# Altium integrated library Linear Technology Power Management Battery Management.IntLib: 626 symbols (part 17 of 56)
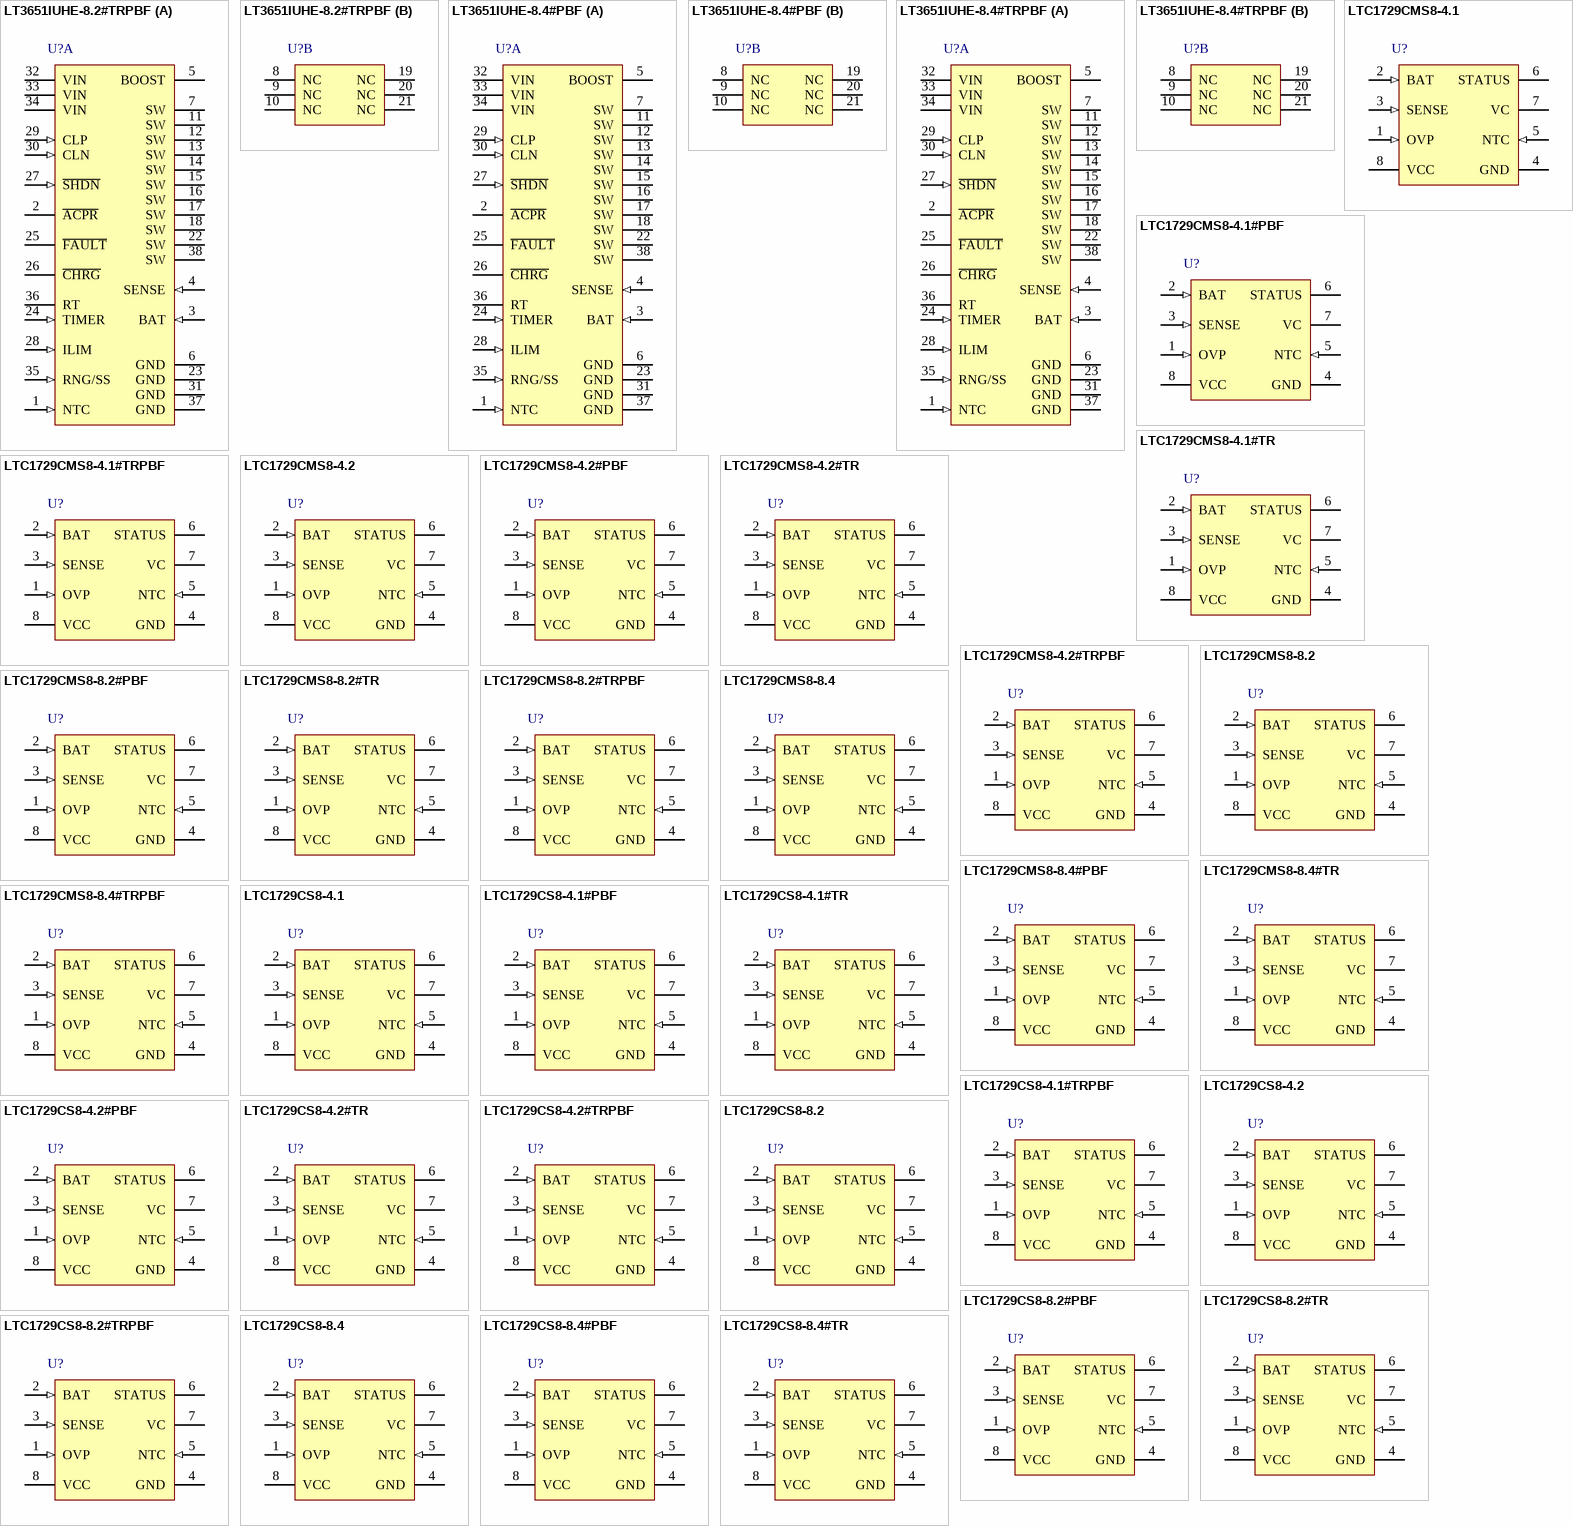
[diagram p38: symbols LT3651IUHE-8.2#TRPBF to LTC1729CS8-8.4#TR]

## LTC1729CMS8-8.4
designator U?
Li-Ion Battery Charger Termination Controller, 8-pin SOP (MS8-8), 0 to 70 degC; Manufacturer: Linear Technology; PartNumber: LTC1729CMS8-8.4; Battery Chemistry: Li-Ion, Li-Polymer, LiFePO4, NiCd, NiMH, Lead Acid; PackageVersion: Rev. G, 03/2012; PackageReference: MS8-8; PackageDescription: 8-Pin Plastic MSOP, Body 3 x 3 mm, Pitch 0.65 mm; Supplier 1: Digi-Key; Supplier Part Number 1: LTC1729CMS8-8.4-ND; RoHS: FALSE; Type of Charger: Termination Controller; Mounting Technology: Surface Mount; ComponentLink1Description: Manufacturer URL; ComponentLink1URL: http://www.linear.com/; ComponentLink2Description: Datasheet; ComponentLink2URL: http://cds.linear.com/docs/en/datasheet/1729f.pdf; ComponentLink3Description: Package Specification; ComponentLink3URL: http://cds.linear.com/docs/en/packaging/05081660_G_MS8.pdf
footprint LT-MS8-8_N (SOP, 8-Leads, Body 3.1x3.1mm, Pitch 0.65mm, IPC Medium Density)
footprint LT-MS8-8_L (SOP, 8-Leads, Body 3.1x3.1mm, Pitch 0.65mm, IPC High Density)
footprint LT-MS8-8_M (SOP, 8-Leads, Body 3.1x3.1mm, Pitch 0.65mm, IPC Low Density)
pins: 1 OVP (in) "Connection to an Internal Precision ResistorDivider Used as a Voltage Feedback Monitor for Constant-Voltage Mode Charging.", 2 BAT (in) "Input to Battery Monitor Circuits and OVP Resistor Divider. The battery monitor circuits activate trickle charge preconditioning, battery present detection and C/10 current detection. This pin is in a high impedance state (See Datasheet)", 3 SENSE (in) "Input to C/10 Current Detection Circuit.This pin sinks 100uA during the Charge state which is used to program the C/10 current threshold.", 4 GND (power) "Ground.", 5 NTC (in) "Input to the NTC Thermistor Monitoring Circuits. When the voltage on this pin is above 2.79V (cold) or below 0.405V (hot), the state machine is locked in the present state and the timer is stopped. This is called the Hold (See Datasheet)", 6 STATUS (hiz) "Open-Drain Output for C/10 Charge Termination Detection Circuit. When in the Charge state,this pin is pulled low.Once the charge current drops below the C/10 current threshold for three seconds, the pull-down transistor is (See Datasheet)", 7 VC (oc) "Open-Drain Output for Turning Off the Charger. When this pin is open circuit, the charger is active. Normally this pin allows the charger to be active for three hours.", 8 VCC (power) "Input Supply. For 4.1V or 4.2V single cell operation, VCC should be between 8V and 28V with the IC turning off when VCC drops below 6V. For 2-cell applications, the undervoltage lockout is 10.4V with a minimum VCC of 12V. (See Datasheet)"

## LTC1729CMS8-8.4#PBF
designator U?
Li-Ion Battery Charger Termination Controller, 8-pin SOP (MS8-8), 0 to 70 degC, Pb-Free; Manufacturer: Linear Technology; PartNumber: LTC1729CMS8-8.4#PBF; Battery Chemistry: Li-Ion, Li-Polymer, LiFePO4, NiCd, NiMH, Lead Acid; PackageVersion: Rev. G, 03/2012; PackageReference: MS8-8; PackageDescription: 8-Pin Plastic MSOP, Body 3 x 3 mm, Pitch 0.65 mm; Supplier 1: Digi-Key; Supplier Part Number 1: LTC1729CMS8-8.4#PBF-ND; RoHS: TRUE; Type of Charger: Termination Controller; Mounting Technology: Surface Mount; ComponentLink1Description: Manufacturer URL; ComponentLink1URL: http://www.linear.com/; ComponentLink2Description: Datasheet; ComponentLink2URL: http://cds.linear.com/docs/en/datasheet/1729f.pdf; ComponentLink3Description: Package Specification; ComponentLink3URL: http://cds.linear.com/docs/en/packaging/05081660_G_MS8.pdf
footprint LT-MS8-8_N (SOP, 8-Leads, Body 3.1x3.1mm, Pitch 0.65mm, IPC Medium Density)
footprint LT-MS8-8_L (SOP, 8-Leads, Body 3.1x3.1mm, Pitch 0.65mm, IPC High Density)
footprint LT-MS8-8_M (SOP, 8-Leads, Body 3.1x3.1mm, Pitch 0.65mm, IPC Low Density)
pins: 1 OVP (in) "Connection to an Internal Precision ResistorDivider Used as a Voltage Feedback Monitor for Constant-Voltage Mode Charging.", 2 BAT (in) "Input to Battery Monitor Circuits and OVP Resistor Divider. The battery monitor circuits activate trickle charge preconditioning, battery present detection and C/10 current detection. This pin is in a high impedance state (See Datasheet)", 3 SENSE (in) "Input to C/10 Current Detection Circuit.This pin sinks 100uA during the Charge state which is used to program the C/10 current threshold.", 4 GND (power) "Ground.", 5 NTC (in) "Input to the NTC Thermistor Monitoring Circuits. When the voltage on this pin is above 2.79V (cold) or below 0.405V (hot), the state machine is locked in the present state and the timer is stopped. This is called the Hold (See Datasheet)", 6 STATUS (hiz) "Open-Drain Output for C/10 Charge Termination Detection Circuit. When in the Charge state,this pin is pulled low.Once the charge current drops below the C/10 current threshold for three seconds, the pull-down transistor is (See Datasheet)", 7 VC (oc) "Open-Drain Output for Turning Off the Charger. When this pin is open circuit, the charger is active. Normally this pin allows the charger to be active for three hours.", 8 VCC (power) "Input Supply. For 4.1V or 4.2V single cell operation, VCC should be between 8V and 28V with the IC turning off when VCC drops below 6V. For 2-cell applications, the undervoltage lockout is 10.4V with a minimum VCC of 12V. (See Datasheet)"

## LTC1729CMS8-8.4#TR
designator U?
Li-Ion Battery Charger Termination Controller, 8-pin SOP (MS8-8), 0 to 70 degC, Tape and Reel; Manufacturer: Linear Technology; PartNumber: LTC1729CMS8-8.4#TR; Battery Chemistry: Li-Ion, Li-Polymer, LiFePO4, NiCd, NiMH, Lead Acid; PackageVersion: Rev. G, 03/2012; PackageReference: MS8-8; PackageDescription: 8-Pin Plastic MSOP, Body 3 x 3 mm, Pitch 0.65 mm; Supplier 1: Digi-Key; Supplier Part Number 1: LTC1729CMS8-8.4TR-ND; Packing: Tape and Reel; RoHS: FALSE; Type of Charger: Termination Controller; Mounting Technology: Surface Mount; ComponentLink1Description: Manufacturer URL; ComponentLink1URL: http://www.linear.com/; ComponentLink2Description: Datasheet; ComponentLink2URL: http://cds.linear.com/docs/en/datasheet/1729f.pdf; ComponentLink3Description: Package Specification; ComponentLink3URL: http://cds.linear.com/docs/en/packaging/05081660_G_MS8.pdf
footprint LT-MS8-8_N (SOP, 8-Leads, Body 3.1x3.1mm, Pitch 0.65mm, IPC Medium Density)
footprint LT-MS8-8_L (SOP, 8-Leads, Body 3.1x3.1mm, Pitch 0.65mm, IPC High Density)
footprint LT-MS8-8_M (SOP, 8-Leads, Body 3.1x3.1mm, Pitch 0.65mm, IPC Low Density)
pins: 1 OVP (in) "Connection to an Internal Precision ResistorDivider Used as a Voltage Feedback Monitor for Constant-Voltage Mode Charging.", 2 BAT (in) "Input to Battery Monitor Circuits and OVP Resistor Divider. The battery monitor circuits activate trickle charge preconditioning, battery present detection and C/10 current detection. This pin is in a high impedance state (See Datasheet)", 3 SENSE (in) "Input to C/10 Current Detection Circuit.This pin sinks 100uA during the Charge state which is used to program the C/10 current threshold.", 4 GND (power) "Ground.", 5 NTC (in) "Input to the NTC Thermistor Monitoring Circuits. When the voltage on this pin is above 2.79V (cold) or below 0.405V (hot), the state machine is locked in the present state and the timer is stopped. This is called the Hold (See Datasheet)", 6 STATUS (hiz) "Open-Drain Output for C/10 Charge Termination Detection Circuit. When in the Charge state,this pin is pulled low.Once the charge current drops below the C/10 current threshold for three seconds, the pull-down transistor is (See Datasheet)", 7 VC (oc) "Open-Drain Output for Turning Off the Charger. When this pin is open circuit, the charger is active. Normally this pin allows the charger to be active for three hours.", 8 VCC (power) "Input Supply. For 4.1V or 4.2V single cell operation, VCC should be between 8V and 28V with the IC turning off when VCC drops below 6V. For 2-cell applications, the undervoltage lockout is 10.4V with a minimum VCC of 12V. (See Datasheet)"

## LTC1729CMS8-8.4#TRPBF
designator U?
Li-Ion Battery Charger Termination Controller, 8-pin SOP (MS8-8), 0 to 70 degC, Pb-Free, Tape and Reel; Manufacturer: Linear Technology; PartNumber: LTC1729CMS8-8.4#TRPBF; Battery Chemistry: Li-Ion, Li-Polymer, LiFePO4, NiCd, NiMH, Lead Acid; PackageVersion: Rev. G, 03/2012; PackageReference: MS8-8; PackageDescription: 8-Pin Plastic MSOP, Body 3 x 3 mm, Pitch 0.65 mm; Supplier 1: Digi-Key; Supplier Part Number 1: LTC1729CMS8-8.4#TRPBF-ND; Packing: Tape and Reel; RoHS: TRUE; Type of Charger: Termination Controller; Mounting Technology: Surface Mount; ComponentLink1Description: Manufacturer URL; ComponentLink1URL: http://www.linear.com/; ComponentLink2Description: Datasheet; ComponentLink2URL: http://cds.linear.com/docs/en/datasheet/1729f.pdf; ComponentLink3Description: Package Specification; ComponentLink3URL: http://cds.linear.com/docs/en/packaging/05081660_G_MS8.pdf
footprint LT-MS8-8_N (SOP, 8-Leads, Body 3.1x3.1mm, Pitch 0.65mm, IPC Medium Density)
footprint LT-MS8-8_L (SOP, 8-Leads, Body 3.1x3.1mm, Pitch 0.65mm, IPC High Density)
footprint LT-MS8-8_M (SOP, 8-Leads, Body 3.1x3.1mm, Pitch 0.65mm, IPC Low Density)
pins: 1 OVP (in) "Connection to an Internal Precision ResistorDivider Used as a Voltage Feedback Monitor for Constant-Voltage Mode Charging.", 2 BAT (in) "Input to Battery Monitor Circuits and OVP Resistor Divider. The battery monitor circuits activate trickle charge preconditioning, battery present detection and C/10 current detection. This pin is in a high impedance state (See Datasheet)", 3 SENSE (in) "Input to C/10 Current Detection Circuit.This pin sinks 100uA during the Charge state which is used to program the C/10 current threshold.", 4 GND (power) "Ground.", 5 NTC (in) "Input to the NTC Thermistor Monitoring Circuits. When the voltage on this pin is above 2.79V (cold) or below 0.405V (hot), the state machine is locked in the present state and the timer is stopped. This is called the Hold (See Datasheet)", 6 STATUS (hiz) "Open-Drain Output for C/10 Charge Termination Detection Circuit. When in the Charge state,this pin is pulled low.Once the charge current drops below the C/10 current threshold for three seconds, the pull-down transistor is (See Datasheet)", 7 VC (oc) "Open-Drain Output for Turning Off the Charger. When this pin is open circuit, the charger is active. Normally this pin allows the charger to be active for three hours.", 8 VCC (power) "Input Supply. For 4.1V or 4.2V single cell operation, VCC should be between 8V and 28V with the IC turning off when VCC drops below 6V. For 2-cell applications, the undervoltage lockout is 10.4V with a minimum VCC of 12V. (See Datasheet)"

## LTC1729CS8-4.1
designator U?
Li-Ion Battery Charger Termination Controller, 8-pin SOIC (S8-8), 0 to 70 degC; Manufacturer: Linear Technology; PartNumber: LTC1729CS8-4.1; Battery Chemistry: Li-Ion, Li-Polymer, LiFePO4, NiCd, NiMH, Lead Acid; PackageVersion: Rev. G, 03/2012; PackageReference: S8-8; PackageDescription: 8-Pin Plastic Small Outline (Narrow .150 Inch), Body 4.9 x 3.9 mm, Pitch 1.27 mm; Supplier 1: Digi-Key; Supplier Part Number 1: LTC1729CS8-4.1-ND; RoHS: FALSE; Type of Charger: Termination Controller; Mounting Technology: Surface Mount; ComponentLink1Description: Manufacturer URL; ComponentLink1URL: http://www.linear.com/; ComponentLink2Description: Datasheet; ComponentLink2URL: http://cds.linear.com/docs/en/datasheet/1729f.pdf; ComponentLink3Description: Package Specification; ComponentLink3URL: http://cds.linear.com/docs/en/packaging/05081610_G_SO8.pdf
footprint LT-S8-8_N (SOIC, 8-Leads, Body 5x4mm, Pitch 1.27mm, IPC Medium Density)
footprint LT-S8-8_L (SOIC, 8-Leads, Body 5x4mm, Pitch 1.27mm, IPC High Density)
footprint LT-S8-8_M (SOIC, 8-Leads, Body 5x4mm, Pitch 1.27mm, IPC Low Density)
pins: 1 OVP (in) "Connection to an Internal Precision ResistorDivider Used as a Voltage Feedback Monitor for Constant-Voltage Mode Charging.", 2 BAT (in) "Input to Battery Monitor Circuits and OVP Resistor Divider. The battery monitor circuits activate trickle charge preconditioning, battery present detection and C/10 current detection. This pin is in a high impedance state (See Datasheet)", 3 SENSE (in) "Input to C/10 Current Detection Circuit.This pin sinks 100uA during the Charge state which is used to program the C/10 current threshold.", 4 GND (power) "Ground.", 5 NTC (in) "Input to the NTC Thermistor Monitoring Circuits. When the voltage on this pin is above 2.79V (cold) or below 0.405V (hot), the state machine is locked in the present state and the timer is stopped. This is called the Hold (See Datasheet)", 6 STATUS (hiz) "Open-Drain Output for C/10 Charge Termination Detection Circuit. When in the Charge state,this pin is pulled low.Once the charge current drops below the C/10 current threshold for three seconds, the pull-down transistor is (See Datasheet)", 7 VC (oc) "Open-Drain Output for Turning Off the Charger. When this pin is open circuit, the charger is active. Normally this pin allows the charger to be active for three hours.", 8 VCC (power) "Input Supply. For 4.1V or 4.2V single cell operation, VCC should be between 8V and 28V with the IC turning off when VCC drops below 6V. For 2-cell applications, the undervoltage lockout is 10.4V with a minimum VCC of 12V. (See Datasheet)"

## LTC1729CS8-4.1#PBF
designator U?
Li-Ion Battery Charger Termination Controller, 8-pin SOIC (S8-8), 0 to 70 degC, Pb-Free; Manufacturer: Linear Technology; PartNumber: LTC1729CS8-4.1#PBF; Battery Chemistry: Li-Ion, Li-Polymer, LiFePO4, NiCd, NiMH, Lead Acid; PackageVersion: Rev. G, 03/2012; PackageReference: S8-8; PackageDescription: 8-Pin Plastic Small Outline (Narrow .150 Inch), Body 4.9 x 3.9 mm, Pitch 1.27 mm; Supplier 1: Digi-Key; Supplier Part Number 1: LTC1729CS8-4.1#PBF-ND; RoHS: TRUE; Type of Charger: Termination Controller; Mounting Technology: Surface Mount; ComponentLink1Description: Manufacturer URL; ComponentLink1URL: http://www.linear.com/; ComponentLink2Description: Datasheet; ComponentLink2URL: http://cds.linear.com/docs/en/datasheet/1729f.pdf; ComponentLink3Description: Package Specification; ComponentLink3URL: http://cds.linear.com/docs/en/packaging/05081610_G_SO8.pdf
footprint LT-S8-8_N (SOIC, 8-Leads, Body 5x4mm, Pitch 1.27mm, IPC Medium Density)
footprint LT-S8-8_L (SOIC, 8-Leads, Body 5x4mm, Pitch 1.27mm, IPC High Density)
footprint LT-S8-8_M (SOIC, 8-Leads, Body 5x4mm, Pitch 1.27mm, IPC Low Density)
pins: 1 OVP (in) "Connection to an Internal Precision ResistorDivider Used as a Voltage Feedback Monitor for Constant-Voltage Mode Charging.", 2 BAT (in) "Input to Battery Monitor Circuits and OVP Resistor Divider. The battery monitor circuits activate trickle charge preconditioning, battery present detection and C/10 current detection. This pin is in a high impedance state (See Datasheet)", 3 SENSE (in) "Input to C/10 Current Detection Circuit.This pin sinks 100uA during the Charge state which is used to program the C/10 current threshold.", 4 GND (power) "Ground.", 5 NTC (in) "Input to the NTC Thermistor Monitoring Circuits. When the voltage on this pin is above 2.79V (cold) or below 0.405V (hot), the state machine is locked in the present state and the timer is stopped. This is called the Hold (See Datasheet)", 6 STATUS (hiz) "Open-Drain Output for C/10 Charge Termination Detection Circuit. When in the Charge state,this pin is pulled low.Once the charge current drops below the C/10 current threshold for three seconds, the pull-down transistor is (See Datasheet)", 7 VC (oc) "Open-Drain Output for Turning Off the Charger. When this pin is open circuit, the charger is active. Normally this pin allows the charger to be active for three hours.", 8 VCC (power) "Input Supply. For 4.1V or 4.2V single cell operation, VCC should be between 8V and 28V with the IC turning off when VCC drops below 6V. For 2-cell applications, the undervoltage lockout is 10.4V with a minimum VCC of 12V. (See Datasheet)"

## LTC1729CS8-4.1#TR
designator U?
Li-Ion Battery Charger Termination Controller, 8-pin SOIC (S8-8), 0 to 70 degC, Tape and Reel; Manufacturer: Linear Technology; PartNumber: LTC1729CS8-4.1#TR; Battery Chemistry: Li-Ion, Li-Polymer, LiFePO4, NiCd, NiMH, Lead Acid; PackageVersion: Rev. G, 03/2012; PackageReference: S8-8; PackageDescription: 8-Pin Plastic Small Outline (Narrow .150 Inch), Body 4.9 x 3.9 mm, Pitch 1.27 mm; Supplier 1: Digi-Key; Supplier Part Number 1: LTC1729CS8-4.1#TR-ND; Packing: Tape and Reel; RoHS: FALSE; Type of Charger: Termination Controller; Mounting Technology: Surface Mount; ComponentLink1Description: Manufacturer URL; ComponentLink1URL: http://www.linear.com/; ComponentLink2Description: Datasheet; ComponentLink2URL: http://cds.linear.com/docs/en/datasheet/1729f.pdf; ComponentLink3Description: Package Specification; ComponentLink3URL: http://cds.linear.com/docs/en/packaging/05081610_G_SO8.pdf
footprint LT-S8-8_N (SOIC, 8-Leads, Body 5x4mm, Pitch 1.27mm, IPC Medium Density)
footprint LT-S8-8_L (SOIC, 8-Leads, Body 5x4mm, Pitch 1.27mm, IPC High Density)
footprint LT-S8-8_M (SOIC, 8-Leads, Body 5x4mm, Pitch 1.27mm, IPC Low Density)
pins: 1 OVP (in) "Connection to an Internal Precision ResistorDivider Used as a Voltage Feedback Monitor for Constant-Voltage Mode Charging.", 2 BAT (in) "Input to Battery Monitor Circuits and OVP Resistor Divider. The battery monitor circuits activate trickle charge preconditioning, battery present detection and C/10 current detection. This pin is in a high impedance state (See Datasheet)", 3 SENSE (in) "Input to C/10 Current Detection Circuit.This pin sinks 100uA during the Charge state which is used to program the C/10 current threshold.", 4 GND (power) "Ground.", 5 NTC (in) "Input to the NTC Thermistor Monitoring Circuits. When the voltage on this pin is above 2.79V (cold) or below 0.405V (hot), the state machine is locked in the present state and the timer is stopped. This is called the Hold (See Datasheet)", 6 STATUS (hiz) "Open-Drain Output for C/10 Charge Termination Detection Circuit. When in the Charge state,this pin is pulled low.Once the charge current drops below the C/10 current threshold for three seconds, the pull-down transistor is (See Datasheet)", 7 VC (oc) "Open-Drain Output for Turning Off the Charger. When this pin is open circuit, the charger is active. Normally this pin allows the charger to be active for three hours.", 8 VCC (power) "Input Supply. For 4.1V or 4.2V single cell operation, VCC should be between 8V and 28V with the IC turning off when VCC drops below 6V. For 2-cell applications, the undervoltage lockout is 10.4V with a minimum VCC of 12V. (See Datasheet)"

## LTC1729CS8-4.1#TRPBF
designator U?
Li-Ion Battery Charger Termination Controller, 8-pin SOIC (S8-8), 0 to 70 degC, Pb-Free, Tape and Reel; Manufacturer: Linear Technology; PartNumber: LTC1729CS8-4.1#TRPBF; Battery Chemistry: Li-Ion, Li-Polymer, LiFePO4, NiCd, NiMH, Lead Acid; PackageVersion: Rev. G, 03/2012; PackageReference: S8-8; PackageDescription: 8-Pin Plastic Small Outline (Narrow .150 Inch), Body 4.9 x 3.9 mm, Pitch 1.27 mm; Supplier 1: Digi-Key; Supplier Part Number 1: LTC1729CS8-4.1#TRPBF-ND; Packing: Tape and Reel; RoHS: TRUE; Type of Charger: Termination Controller; Mounting Technology: Surface Mount; ComponentLink1Description: Manufacturer URL; ComponentLink1URL: http://www.linear.com/; ComponentLink2Description: Datasheet; ComponentLink2URL: http://cds.linear.com/docs/en/datasheet/1729f.pdf; ComponentLink3Description: Package Specification; ComponentLink3URL: http://cds.linear.com/docs/en/packaging/05081610_G_SO8.pdf
footprint LT-S8-8_N (SOIC, 8-Leads, Body 5x4mm, Pitch 1.27mm, IPC Medium Density)
footprint LT-S8-8_L (SOIC, 8-Leads, Body 5x4mm, Pitch 1.27mm, IPC High Density)
footprint LT-S8-8_M (SOIC, 8-Leads, Body 5x4mm, Pitch 1.27mm, IPC Low Density)
pins: 1 OVP (in) "Connection to an Internal Precision ResistorDivider Used as a Voltage Feedback Monitor for Constant-Voltage Mode Charging.", 2 BAT (in) "Input to Battery Monitor Circuits and OVP Resistor Divider. The battery monitor circuits activate trickle charge preconditioning, battery present detection and C/10 current detection. This pin is in a high impedance state (See Datasheet)", 3 SENSE (in) "Input to C/10 Current Detection Circuit.This pin sinks 100uA during the Charge state which is used to program the C/10 current threshold.", 4 GND (power) "Ground.", 5 NTC (in) "Input to the NTC Thermistor Monitoring Circuits. When the voltage on this pin is above 2.79V (cold) or below 0.405V (hot), the state machine is locked in the present state and the timer is stopped. This is called the Hold (See Datasheet)", 6 STATUS (hiz) "Open-Drain Output for C/10 Charge Termination Detection Circuit. When in the Charge state,this pin is pulled low.Once the charge current drops below the C/10 current threshold for three seconds, the pull-down transistor is (See Datasheet)", 7 VC (oc) "Open-Drain Output for Turning Off the Charger. When this pin is open circuit, the charger is active. Normally this pin allows the charger to be active for three hours.", 8 VCC (power) "Input Supply. For 4.1V or 4.2V single cell operation, VCC should be between 8V and 28V with the IC turning off when VCC drops below 6V. For 2-cell applications, the undervoltage lockout is 10.4V with a minimum VCC of 12V. (See Datasheet)"

## LTC1729CS8-4.2
designator U?
Li-Ion Battery Charger Termination Controller, 8-pin SOIC (S8-8), 0 to 70 degC; Manufacturer: Linear Technology; PartNumber: LTC1729CS8-4.2; Battery Chemistry: Li-Ion, Li-Polymer, LiFePO4, NiCd, NiMH, Lead Acid; PackageVersion: Rev. G, 03/2012; PackageReference: S8-8; PackageDescription: 8-Pin Plastic Small Outline (Narrow .150 Inch), Body 4.9 x 3.9 mm, Pitch 1.27 mm; Supplier 1: Digi-Key; Supplier Part Number 1: LTC1729CS8-4.2-ND; RoHS: FALSE; Type of Charger: Termination Controller; Mounting Technology: Surface Mount; ComponentLink1Description: Manufacturer URL; ComponentLink1URL: http://www.linear.com/; ComponentLink2Description: Datasheet; ComponentLink2URL: http://cds.linear.com/docs/en/datasheet/1729f.pdf; ComponentLink3Description: Package Specification; ComponentLink3URL: http://cds.linear.com/docs/en/packaging/05081610_G_SO8.pdf
footprint LT-S8-8_N (SOIC, 8-Leads, Body 5x4mm, Pitch 1.27mm, IPC Medium Density)
footprint LT-S8-8_L (SOIC, 8-Leads, Body 5x4mm, Pitch 1.27mm, IPC High Density)
footprint LT-S8-8_M (SOIC, 8-Leads, Body 5x4mm, Pitch 1.27mm, IPC Low Density)
pins: 1 OVP (in) "Connection to an Internal Precision ResistorDivider Used as a Voltage Feedback Monitor for Constant-Voltage Mode Charging.", 2 BAT (in) "Input to Battery Monitor Circuits and OVP Resistor Divider. The battery monitor circuits activate trickle charge preconditioning, battery present detection and C/10 current detection. This pin is in a high impedance state (See Datasheet)", 3 SENSE (in) "Input to C/10 Current Detection Circuit.This pin sinks 100uA during the Charge state which is used to program the C/10 current threshold.", 4 GND (power) "Ground.", 5 NTC (in) "Input to the NTC Thermistor Monitoring Circuits. When the voltage on this pin is above 2.79V (cold) or below 0.405V (hot), the state machine is locked in the present state and the timer is stopped. This is called the Hold (See Datasheet)", 6 STATUS (hiz) "Open-Drain Output for C/10 Charge Termination Detection Circuit. When in the Charge state,this pin is pulled low.Once the charge current drops below the C/10 current threshold for three seconds, the pull-down transistor is (See Datasheet)", 7 VC (oc) "Open-Drain Output for Turning Off the Charger. When this pin is open circuit, the charger is active. Normally this pin allows the charger to be active for three hours.", 8 VCC (power) "Input Supply. For 4.1V or 4.2V single cell operation, VCC should be between 8V and 28V with the IC turning off when VCC drops below 6V. For 2-cell applications, the undervoltage lockout is 10.4V with a minimum VCC of 12V. (See Datasheet)"

## LTC1729CS8-4.2#PBF
designator U?
Li-Ion Battery Charger Termination Controller, 8-pin SOIC (S8-8), 0 to 70 degC, Pb-Free; Manufacturer: Linear Technology; PartNumber: LTC1729CS8-4.2#PBF; Battery Chemistry: Li-Ion, Li-Polymer, LiFePO4, NiCd, NiMH, Lead Acid; PackageVersion: Rev. G, 03/2012; PackageReference: S8-8; PackageDescription: 8-Pin Plastic Small Outline (Narrow .150 Inch), Body 4.9 x 3.9 mm, Pitch 1.27 mm; Supplier 1: Digi-Key; Supplier Part Number 1: LTC1729CS8-4.2#PBF-ND; RoHS: TRUE; Type of Charger: Termination Controller; Mounting Technology: Surface Mount; ComponentLink1Description: Manufacturer URL; ComponentLink1URL: http://www.linear.com/; ComponentLink2Description: Datasheet; ComponentLink2URL: http://cds.linear.com/docs/en/datasheet/1729f.pdf; ComponentLink3Description: Package Specification; ComponentLink3URL: http://cds.linear.com/docs/en/packaging/05081610_G_SO8.pdf
footprint LT-S8-8_N (SOIC, 8-Leads, Body 5x4mm, Pitch 1.27mm, IPC Medium Density)
footprint LT-S8-8_L (SOIC, 8-Leads, Body 5x4mm, Pitch 1.27mm, IPC High Density)
footprint LT-S8-8_M (SOIC, 8-Leads, Body 5x4mm, Pitch 1.27mm, IPC Low Density)
pins: 1 OVP (in) "Connection to an Internal Precision ResistorDivider Used as a Voltage Feedback Monitor for Constant-Voltage Mode Charging.", 2 BAT (in) "Input to Battery Monitor Circuits and OVP Resistor Divider. The battery monitor circuits activate trickle charge preconditioning, battery present detection and C/10 current detection. This pin is in a high impedance state (See Datasheet)", 3 SENSE (in) "Input to C/10 Current Detection Circuit.This pin sinks 100uA during the Charge state which is used to program the C/10 current threshold.", 4 GND (power) "Ground.", 5 NTC (in) "Input to the NTC Thermistor Monitoring Circuits. When the voltage on this pin is above 2.79V (cold) or below 0.405V (hot), the state machine is locked in the present state and the timer is stopped. This is called the Hold (See Datasheet)", 6 STATUS (hiz) "Open-Drain Output for C/10 Charge Termination Detection Circuit. When in the Charge state,this pin is pulled low.Once the charge current drops below the C/10 current threshold for three seconds, the pull-down transistor is (See Datasheet)", 7 VC (oc) "Open-Drain Output for Turning Off the Charger. When this pin is open circuit, the charger is active. Normally this pin allows the charger to be active for three hours.", 8 VCC (power) "Input Supply. For 4.1V or 4.2V single cell operation, VCC should be between 8V and 28V with the IC turning off when VCC drops below 6V. For 2-cell applications, the undervoltage lockout is 10.4V with a minimum VCC of 12V. (See Datasheet)"

## LTC1729CS8-4.2#TR
designator U?
Li-Ion Battery Charger Termination Controller, 8-pin SOIC (S8-8), 0 to 70 degC, Tape and Reel; Manufacturer: Linear Technology; PartNumber: LTC1729CS8-4.2#TR; Battery Chemistry: Li-Ion, Li-Polymer, LiFePO4, NiCd, NiMH, Lead Acid; PackageVersion: Rev. G, 03/2012; PackageReference: S8-8; PackageDescription: 8-Pin Plastic Small Outline (Narrow .150 Inch), Body 4.9 x 3.9 mm, Pitch 1.27 mm; Supplier 1: Digi-Key; Supplier Part Number 1: LTC1729CS8-4.2#TR-ND; Packing: Tape and Reel; RoHS: FALSE; Type of Charger: Termination Controller; Mounting Technology: Surface Mount; ComponentLink1Description: Manufacturer URL; ComponentLink1URL: http://www.linear.com/; ComponentLink2Description: Datasheet; ComponentLink2URL: http://cds.linear.com/docs/en/datasheet/1729f.pdf; ComponentLink3Description: Package Specification; ComponentLink3URL: http://cds.linear.com/docs/en/packaging/05081610_G_SO8.pdf
footprint LT-S8-8_N (SOIC, 8-Leads, Body 5x4mm, Pitch 1.27mm, IPC Medium Density)
footprint LT-S8-8_L (SOIC, 8-Leads, Body 5x4mm, Pitch 1.27mm, IPC High Density)
footprint LT-S8-8_M (SOIC, 8-Leads, Body 5x4mm, Pitch 1.27mm, IPC Low Density)
pins: 1 OVP (in) "Connection to an Internal Precision ResistorDivider Used as a Voltage Feedback Monitor for Constant-Voltage Mode Charging.", 2 BAT (in) "Input to Battery Monitor Circuits and OVP Resistor Divider. The battery monitor circuits activate trickle charge preconditioning, battery present detection and C/10 current detection. This pin is in a high impedance state (See Datasheet)", 3 SENSE (in) "Input to C/10 Current Detection Circuit.This pin sinks 100uA during the Charge state which is used to program the C/10 current threshold.", 4 GND (power) "Ground.", 5 NTC (in) "Input to the NTC Thermistor Monitoring Circuits. When the voltage on this pin is above 2.79V (cold) or below 0.405V (hot), the state machine is locked in the present state and the timer is stopped. This is called the Hold (See Datasheet)", 6 STATUS (hiz) "Open-Drain Output for C/10 Charge Termination Detection Circuit. When in the Charge state,this pin is pulled low.Once the charge current drops below the C/10 current threshold for three seconds, the pull-down transistor is (See Datasheet)", 7 VC (oc) "Open-Drain Output for Turning Off the Charger. When this pin is open circuit, the charger is active. Normally this pin allows the charger to be active for three hours.", 8 VCC (power) "Input Supply. For 4.1V or 4.2V single cell operation, VCC should be between 8V and 28V with the IC turning off when VCC drops below 6V. For 2-cell applications, the undervoltage lockout is 10.4V with a minimum VCC of 12V. (See Datasheet)"

## LTC1729CS8-4.2#TRPBF
designator U?
Li-Ion Battery Charger Termination Controller, 8-pin SOIC (S8-8), 0 to 70 degC, Pb-Free, Tape and Reel; Manufacturer: Linear Technology; PartNumber: LTC1729CS8-4.2#TRPBF; Battery Chemistry: Li-Ion, Li-Polymer, LiFePO4, NiCd, NiMH, Lead Acid; PackageVersion: Rev. G, 03/2012; PackageReference: S8-8; PackageDescription: 8-Pin Plastic Small Outline (Narrow .150 Inch), Body 4.9 x 3.9 mm, Pitch 1.27 mm; Supplier 1: Digi-Key; Supplier Part Number 1: LTC1729CS8-4.2#TRPBF-ND; Packing: Tape and Reel; RoHS: TRUE; Type of Charger: Termination Controller; Mounting Technology: Surface Mount; ComponentLink1Description: Manufacturer URL; ComponentLink1URL: http://www.linear.com/; ComponentLink2Description: Datasheet; ComponentLink2URL: http://cds.linear.com/docs/en/datasheet/1729f.pdf; ComponentLink3Description: Package Specification; ComponentLink3URL: http://cds.linear.com/docs/en/packaging/05081610_G_SO8.pdf
footprint LT-S8-8_N (SOIC, 8-Leads, Body 5x4mm, Pitch 1.27mm, IPC Medium Density)
footprint LT-S8-8_L (SOIC, 8-Leads, Body 5x4mm, Pitch 1.27mm, IPC High Density)
footprint LT-S8-8_M (SOIC, 8-Leads, Body 5x4mm, Pitch 1.27mm, IPC Low Density)
pins: 1 OVP (in) "Connection to an Internal Precision ResistorDivider Used as a Voltage Feedback Monitor for Constant-Voltage Mode Charging.", 2 BAT (in) "Input to Battery Monitor Circuits and OVP Resistor Divider. The battery monitor circuits activate trickle charge preconditioning, battery present detection and C/10 current detection. This pin is in a high impedance state (See Datasheet)", 3 SENSE (in) "Input to C/10 Current Detection Circuit.This pin sinks 100uA during the Charge state which is used to program the C/10 current threshold.", 4 GND (power) "Ground.", 5 NTC (in) "Input to the NTC Thermistor Monitoring Circuits. When the voltage on this pin is above 2.79V (cold) or below 0.405V (hot), the state machine is locked in the present state and the timer is stopped. This is called the Hold (See Datasheet)", 6 STATUS (hiz) "Open-Drain Output for C/10 Charge Termination Detection Circuit. When in the Charge state,this pin is pulled low.Once the charge current drops below the C/10 current threshold for three seconds, the pull-down transistor is (See Datasheet)", 7 VC (oc) "Open-Drain Output for Turning Off the Charger. When this pin is open circuit, the charger is active. Normally this pin allows the charger to be active for three hours.", 8 VCC (power) "Input Supply. For 4.1V or 4.2V single cell operation, VCC should be between 8V and 28V with the IC turning off when VCC drops below 6V. For 2-cell applications, the undervoltage lockout is 10.4V with a minimum VCC of 12V. (See Datasheet)"

## LTC1729CS8-8.2
designator U?
Li-Ion Battery Charger Termination Controller, 8-pin SOIC (S8-8), 0 to 70 degC; Manufacturer: Linear Technology; PartNumber: LTC1729CS8-8.2; Battery Chemistry: Li-Ion, Li-Polymer, LiFePO4, NiCd, NiMH, Lead Acid; PackageVersion: Rev. G, 03/2012; PackageReference: S8-8; PackageDescription: 8-Pin Plastic Small Outline (Narrow .150 Inch), Body 4.9 x 3.9 mm, Pitch 1.27 mm; Supplier 1: Digi-Key; Supplier Part Number 1: LTC1729CS8-8.2-ND; RoHS: FALSE; Type of Charger: Termination Controller; Mounting Technology: Surface Mount; ComponentLink1Description: Manufacturer URL; ComponentLink1URL: http://www.linear.com/; ComponentLink2Description: Datasheet; ComponentLink2URL: http://cds.linear.com/docs/en/datasheet/1729f.pdf; ComponentLink3Description: Package Specification; ComponentLink3URL: http://cds.linear.com/docs/en/packaging/05081610_G_SO8.pdf
footprint LT-S8-8_N (SOIC, 8-Leads, Body 5x4mm, Pitch 1.27mm, IPC Medium Density)
footprint LT-S8-8_L (SOIC, 8-Leads, Body 5x4mm, Pitch 1.27mm, IPC High Density)
footprint LT-S8-8_M (SOIC, 8-Leads, Body 5x4mm, Pitch 1.27mm, IPC Low Density)
pins: 1 OVP (in) "Connection to an Internal Precision ResistorDivider Used as a Voltage Feedback Monitor for Constant-Voltage Mode Charging.", 2 BAT (in) "Input to Battery Monitor Circuits and OVP Resistor Divider. The battery monitor circuits activate trickle charge preconditioning, battery present detection and C/10 current detection. This pin is in a high impedance state (See Datasheet)", 3 SENSE (in) "Input to C/10 Current Detection Circuit.This pin sinks 100uA during the Charge state which is used to program the C/10 current threshold.", 4 GND (power) "Ground.", 5 NTC (in) "Input to the NTC Thermistor Monitoring Circuits. When the voltage on this pin is above 2.79V (cold) or below 0.405V (hot), the state machine is locked in the present state and the timer is stopped. This is called the Hold (See Datasheet)", 6 STATUS (hiz) "Open-Drain Output for C/10 Charge Termination Detection Circuit. When in the Charge state,this pin is pulled low.Once the charge current drops below the C/10 current threshold for three seconds, the pull-down transistor is (See Datasheet)", 7 VC (oc) "Open-Drain Output for Turning Off the Charger. When this pin is open circuit, the charger is active. Normally this pin allows the charger to be active for three hours.", 8 VCC (power) "Input Supply. For 4.1V or 4.2V single cell operation, VCC should be between 8V and 28V with the IC turning off when VCC drops below 6V. For 2-cell applications, the undervoltage lockout is 10.4V with a minimum VCC of 12V. (See Datasheet)"

## LTC1729CS8-8.2#PBF
designator U?
Li-Ion Battery Charger Termination Controller, 8-pin SOIC (S8-8), 0 to 70 degC, Pb-Free; Manufacturer: Linear Technology; PartNumber: LTC1729CS8-8.2#PBF; Battery Chemistry: Li-Ion, Li-Polymer, LiFePO4, NiCd, NiMH, Lead Acid; PackageVersion: Rev. G, 03/2012; PackageReference: S8-8; PackageDescription: 8-Pin Plastic Small Outline (Narrow .150 Inch), Body 4.9 x 3.9 mm, Pitch 1.27 mm; Supplier 1: Digi-Key; Supplier Part Number 1: LTC1729CS8-8.2#PBF-ND; RoHS: TRUE; Type of Charger: Termination Controller; Mounting Technology: Surface Mount; ComponentLink1Description: Manufacturer URL; ComponentLink1URL: http://www.linear.com/; ComponentLink2Description: Datasheet; ComponentLink2URL: http://cds.linear.com/docs/en/datasheet/1729f.pdf; ComponentLink3Description: Package Specification; ComponentLink3URL: http://cds.linear.com/docs/en/packaging/05081610_G_SO8.pdf
footprint LT-S8-8_N (SOIC, 8-Leads, Body 5x4mm, Pitch 1.27mm, IPC Medium Density)
footprint LT-S8-8_L (SOIC, 8-Leads, Body 5x4mm, Pitch 1.27mm, IPC High Density)
footprint LT-S8-8_M (SOIC, 8-Leads, Body 5x4mm, Pitch 1.27mm, IPC Low Density)
pins: 1 OVP (in) "Connection to an Internal Precision ResistorDivider Used as a Voltage Feedback Monitor for Constant-Voltage Mode Charging.", 2 BAT (in) "Input to Battery Monitor Circuits and OVP Resistor Divider. The battery monitor circuits activate trickle charge preconditioning, battery present detection and C/10 current detection. This pin is in a high impedance state (See Datasheet)", 3 SENSE (in) "Input to C/10 Current Detection Circuit.This pin sinks 100uA during the Charge state which is used to program the C/10 current threshold.", 4 GND (power) "Ground.", 5 NTC (in) "Input to the NTC Thermistor Monitoring Circuits. When the voltage on this pin is above 2.79V (cold) or below 0.405V (hot), the state machine is locked in the present state and the timer is stopped. This is called the Hold (See Datasheet)", 6 STATUS (hiz) "Open-Drain Output for C/10 Charge Termination Detection Circuit. When in the Charge state,this pin is pulled low.Once the charge current drops below the C/10 current threshold for three seconds, the pull-down transistor is (See Datasheet)", 7 VC (oc) "Open-Drain Output for Turning Off the Charger. When this pin is open circuit, the charger is active. Normally this pin allows the charger to be active for three hours.", 8 VCC (power) "Input Supply. For 4.1V or 4.2V single cell operation, VCC should be between 8V and 28V with the IC turning off when VCC drops below 6V. For 2-cell applications, the undervoltage lockout is 10.4V with a minimum VCC of 12V. (See Datasheet)"

## LTC1729CS8-8.2#TR
designator U?
Li-Ion Battery Charger Termination Controller, 8-pin SOIC (S8-8), 0 to 70 degC, Tape and Reel; Manufacturer: Linear Technology; PartNumber: LTC1729CS8-8.2#TR; Battery Chemistry: Li-Ion, Li-Polymer, LiFePO4, NiCd, NiMH, Lead Acid; PackageVersion: Rev. G, 03/2012; PackageReference: S8-8; PackageDescription: 8-Pin Plastic Small Outline (Narrow .150 Inch), Body 4.9 x 3.9 mm, Pitch 1.27 mm; Supplier 1: Digi-Key; Supplier Part Number 1: LTC1729CS8-8.2#TR-ND; Packing: Tape and Reel; RoHS: FALSE; Type of Charger: Termination Controller; Mounting Technology: Surface Mount; ComponentLink1Description: Manufacturer URL; ComponentLink1URL: http://www.linear.com/; ComponentLink2Description: Datasheet; ComponentLink2URL: http://cds.linear.com/docs/en/datasheet/1729f.pdf; ComponentLink3Description: Package Specification; ComponentLink3URL: http://cds.linear.com/docs/en/packaging/05081610_G_SO8.pdf
footprint LT-S8-8_N (SOIC, 8-Leads, Body 5x4mm, Pitch 1.27mm, IPC Medium Density)
footprint LT-S8-8_L (SOIC, 8-Leads, Body 5x4mm, Pitch 1.27mm, IPC High Density)
footprint LT-S8-8_M (SOIC, 8-Leads, Body 5x4mm, Pitch 1.27mm, IPC Low Density)
pins: 1 OVP (in) "Connection to an Internal Precision ResistorDivider Used as a Voltage Feedback Monitor for Constant-Voltage Mode Charging.", 2 BAT (in) "Input to Battery Monitor Circuits and OVP Resistor Divider. The battery monitor circuits activate trickle charge preconditioning, battery present detection and C/10 current detection. This pin is in a high impedance state (See Datasheet)", 3 SENSE (in) "Input to C/10 Current Detection Circuit.This pin sinks 100uA during the Charge state which is used to program the C/10 current threshold.", 4 GND (power) "Ground.", 5 NTC (in) "Input to the NTC Thermistor Monitoring Circuits. When the voltage on this pin is above 2.79V (cold) or below 0.405V (hot), the state machine is locked in the present state and the timer is stopped. This is called the Hold (See Datasheet)", 6 STATUS (hiz) "Open-Drain Output for C/10 Charge Termination Detection Circuit. When in the Charge state,this pin is pulled low.Once the charge current drops below the C/10 current threshold for three seconds, the pull-down transistor is (See Datasheet)", 7 VC (oc) "Open-Drain Output for Turning Off the Charger. When this pin is open circuit, the charger is active. Normally this pin allows the charger to be active for three hours.", 8 VCC (power) "Input Supply. For 4.1V or 4.2V single cell operation, VCC should be between 8V and 28V with the IC turning off when VCC drops below 6V. For 2-cell applications, the undervoltage lockout is 10.4V with a minimum VCC of 12V. (See Datasheet)"

## LTC1729CS8-8.2#TRPBF
designator U?
Li-Ion Battery Charger Termination Controller, 8-pin SOIC (S8-8), 0 to 70 degC, Pb-Free, Tape and Reel; Manufacturer: Linear Technology; PartNumber: LTC1729CS8-8.2#TRPBF; Battery Chemistry: Li-Ion, Li-Polymer, LiFePO4, NiCd, NiMH, Lead Acid; PackageVersion: Rev. G, 03/2012; PackageReference: S8-8; PackageDescription: 8-Pin Plastic Small Outline (Narrow .150 Inch), Body 4.9 x 3.9 mm, Pitch 1.27 mm; Supplier 1: Digi-Key; Supplier Part Number 1: LTC1729CS8-8.2#TRPBF-ND; Packing: Tape and Reel; RoHS: TRUE; Type of Charger: Termination Controller; Mounting Technology: Surface Mount; ComponentLink1Description: Manufacturer URL; ComponentLink1URL: http://www.linear.com/; ComponentLink2Description: Datasheet; ComponentLink2URL: http://cds.linear.com/docs/en/datasheet/1729f.pdf; ComponentLink3Description: Package Specification; ComponentLink3URL: http://cds.linear.com/docs/en/packaging/05081610_G_SO8.pdf
footprint LT-S8-8_N (SOIC, 8-Leads, Body 5x4mm, Pitch 1.27mm, IPC Medium Density)
footprint LT-S8-8_L (SOIC, 8-Leads, Body 5x4mm, Pitch 1.27mm, IPC High Density)
footprint LT-S8-8_M (SOIC, 8-Leads, Body 5x4mm, Pitch 1.27mm, IPC Low Density)
pins: 1 OVP (in) "Connection to an Internal Precision ResistorDivider Used as a Voltage Feedback Monitor for Constant-Voltage Mode Charging.", 2 BAT (in) "Input to Battery Monitor Circuits and OVP Resistor Divider. The battery monitor circuits activate trickle charge preconditioning, battery present detection and C/10 current detection. This pin is in a high impedance state (See Datasheet)", 3 SENSE (in) "Input to C/10 Current Detection Circuit.This pin sinks 100uA during the Charge state which is used to program the C/10 current threshold.", 4 GND (power) "Ground.", 5 NTC (in) "Input to the NTC Thermistor Monitoring Circuits. When the voltage on this pin is above 2.79V (cold) or below 0.405V (hot), the state machine is locked in the present state and the timer is stopped. This is called the Hold (See Datasheet)", 6 STATUS (hiz) "Open-Drain Output for C/10 Charge Termination Detection Circuit. When in the Charge state,this pin is pulled low.Once the charge current drops below the C/10 current threshold for three seconds, the pull-down transistor is (See Datasheet)", 7 VC (oc) "Open-Drain Output for Turning Off the Charger. When this pin is open circuit, the charger is active. Normally this pin allows the charger to be active for three hours.", 8 VCC (power) "Input Supply. For 4.1V or 4.2V single cell operation, VCC should be between 8V and 28V with the IC turning off when VCC drops below 6V. For 2-cell applications, the undervoltage lockout is 10.4V with a minimum VCC of 12V. (See Datasheet)"

## LTC1729CS8-8.4
designator U?
Li-Ion Battery Charger Termination Controller, 8-pin SOIC (S8-8), 0 to 70 degC; Manufacturer: Linear Technology; PartNumber: LTC1729CS8-8.4; Battery Chemistry: Li-Ion, Li-Polymer, LiFePO4, NiCd, NiMH, Lead Acid; PackageVersion: Rev. G, 03/2012; PackageReference: S8-8; PackageDescription: 8-Pin Plastic Small Outline (Narrow .150 Inch), Body 4.9 x 3.9 mm, Pitch 1.27 mm; Supplier 1: Digi-Key; Supplier Part Number 1: LTC1729CS8-8.4-ND; RoHS: FALSE; Type of Charger: Termination Controller; Mounting Technology: Surface Mount; ComponentLink1Description: Manufacturer URL; ComponentLink1URL: http://www.linear.com/; ComponentLink2Description: Datasheet; ComponentLink2URL: http://cds.linear.com/docs/en/datasheet/1729f.pdf; ComponentLink3Description: Package Specification; ComponentLink3URL: http://cds.linear.com/docs/en/packaging/05081610_G_SO8.pdf
footprint LT-S8-8_N (SOIC, 8-Leads, Body 5x4mm, Pitch 1.27mm, IPC Medium Density)
footprint LT-S8-8_L (SOIC, 8-Leads, Body 5x4mm, Pitch 1.27mm, IPC High Density)
footprint LT-S8-8_M (SOIC, 8-Leads, Body 5x4mm, Pitch 1.27mm, IPC Low Density)
pins: 1 OVP (in) "Connection to an Internal Precision ResistorDivider Used as a Voltage Feedback Monitor for Constant-Voltage Mode Charging.", 2 BAT (in) "Input to Battery Monitor Circuits and OVP Resistor Divider. The battery monitor circuits activate trickle charge preconditioning, battery present detection and C/10 current detection. This pin is in a high impedance state (See Datasheet)", 3 SENSE (in) "Input to C/10 Current Detection Circuit.This pin sinks 100uA during the Charge state which is used to program the C/10 current threshold.", 4 GND (power) "Ground.", 5 NTC (in) "Input to the NTC Thermistor Monitoring Circuits. When the voltage on this pin is above 2.79V (cold) or below 0.405V (hot), the state machine is locked in the present state and the timer is stopped. This is called the Hold (See Datasheet)", 6 STATUS (hiz) "Open-Drain Output for C/10 Charge Termination Detection Circuit. When in the Charge state,this pin is pulled low.Once the charge current drops below the C/10 current threshold for three seconds, the pull-down transistor is (See Datasheet)", 7 VC (oc) "Open-Drain Output for Turning Off the Charger. When this pin is open circuit, the charger is active. Normally this pin allows the charger to be active for three hours.", 8 VCC (power) "Input Supply. For 4.1V or 4.2V single cell operation, VCC should be between 8V and 28V with the IC turning off when VCC drops below 6V. For 2-cell applications, the undervoltage lockout is 10.4V with a minimum VCC of 12V. (See Datasheet)"

## LTC1729CS8-8.4#PBF
designator U?
Li-Ion Battery Charger Termination Controller, 8-pin SOIC (S8-8), 0 to 70 degC, Pb-Free; Manufacturer: Linear Technology; PartNumber: LTC1729CS8-8.4#PBF; Battery Chemistry: Li-Ion, Li-Polymer, LiFePO4, NiCd, NiMH, Lead Acid; PackageVersion: Rev. G, 03/2012; PackageReference: S8-8; PackageDescription: 8-Pin Plastic Small Outline (Narrow .150 Inch), Body 4.9 x 3.9 mm, Pitch 1.27 mm; Supplier 1: Digi-Key; Supplier Part Number 1: LTC1729CS8-8.4#PBF-ND; RoHS: TRUE; Type of Charger: Termination Controller; Mounting Technology: Surface Mount; ComponentLink1Description: Manufacturer URL; ComponentLink1URL: http://www.linear.com/; ComponentLink2Description: Datasheet; ComponentLink2URL: http://cds.linear.com/docs/en/datasheet/1729f.pdf; ComponentLink3Description: Package Specification; ComponentLink3URL: http://cds.linear.com/docs/en/packaging/05081610_G_SO8.pdf
footprint LT-S8-8_N (SOIC, 8-Leads, Body 5x4mm, Pitch 1.27mm, IPC Medium Density)
footprint LT-S8-8_L (SOIC, 8-Leads, Body 5x4mm, Pitch 1.27mm, IPC High Density)
footprint LT-S8-8_M (SOIC, 8-Leads, Body 5x4mm, Pitch 1.27mm, IPC Low Density)
pins: 1 OVP (in) "Connection to an Internal Precision ResistorDivider Used as a Voltage Feedback Monitor for Constant-Voltage Mode Charging.", 2 BAT (in) "Input to Battery Monitor Circuits and OVP Resistor Divider. The battery monitor circuits activate trickle charge preconditioning, battery present detection and C/10 current detection. This pin is in a high impedance state (See Datasheet)", 3 SENSE (in) "Input to C/10 Current Detection Circuit.This pin sinks 100uA during the Charge state which is used to program the C/10 current threshold.", 4 GND (power) "Ground.", 5 NTC (in) "Input to the NTC Thermistor Monitoring Circuits. When the voltage on this pin is above 2.79V (cold) or below 0.405V (hot), the state machine is locked in the present state and the timer is stopped. This is called the Hold (See Datasheet)", 6 STATUS (hiz) "Open-Drain Output for C/10 Charge Termination Detection Circuit. When in the Charge state,this pin is pulled low.Once the charge current drops below the C/10 current threshold for three seconds, the pull-down transistor is (See Datasheet)", 7 VC (oc) "Open-Drain Output for Turning Off the Charger. When this pin is open circuit, the charger is active. Normally this pin allows the charger to be active for three hours.", 8 VCC (power) "Input Supply. For 4.1V or 4.2V single cell operation, VCC should be between 8V and 28V with the IC turning off when VCC drops below 6V. For 2-cell applications, the undervoltage lockout is 10.4V with a minimum VCC of 12V. (See Datasheet)"